# EAGLE library part SIPS-7 (library Aruduino-Kids-Shiled)
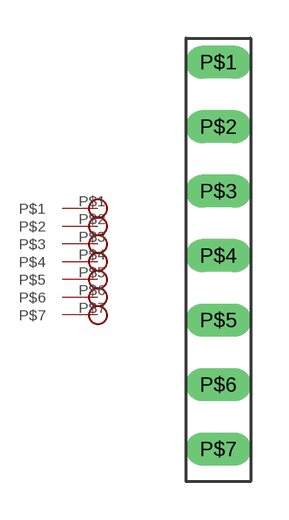
[diagram p3: symbol with the pads of SIPC-7; footprint SIPC-7]

Designator prefix -

## SIPS-7  [SIPC-7]
P$1  P$1
P$2  P$2
P$3  P$3
P$4  P$4
P$5  P$5
P$6  P$6
P$7  P$7

## Footprint SIPC-7 (pad centres in mm)
drill 0.8 long: P$1 0,7.62; P$2 0,5.08; P$3 0,2.54; P$4 0,0; P$5 0,-2.54; P$6 0,-5.08; P$7 0,-7.62